# Altium footprint library arduino_uno.PcbLib: 1 footprints
Each footprint in its own frame and in the unit in brackets; x right, y up, seen from the top. Pads: shape width x height; smd on the part's side, far side on the other; paste and mask are expansions set on the pad; w line width, h text height; cw(c..) or ccw(c..) is an arc to the next point about the centre after c.
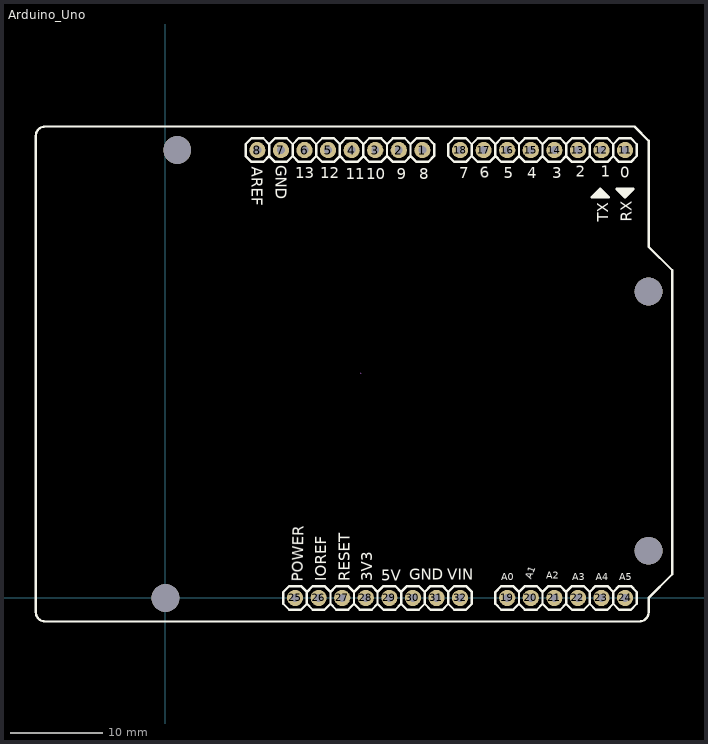
[diagram p0: the footprint, top view; thin cyan lines are the x and y axes]

## Arduino_Uno [mm]
pads (34):
  round 1.75 hole 0.85: 1(27.686,48.26) 2(25.146,48.26) 3(22.606,48.26) 4(20.066,48.26) 5(17.526,48.26) 6(14.986,48.26) 7(12.446,48.26) 8(9.906,48.26) 11(49.53,48.26) 12(46.99,48.26) 13(44.45,48.26) 14(41.91,48.26) 15(39.37,48.26) 16(36.83,48.26) 17(34.29,48.26) 18(31.75,48.26) 19(36.83,0) 20(39.37,0) 21(41.91,0) 22(44.45,0) 23(46.99,0) 24(49.53,0) 25(13.97,0) 26(16.51,0) 27(19.05,0) 28(21.59,0) 29(24.13,0) 30(26.67,0) 31(29.21,0) 32(31.75,0)
  round 3 hole 3 unplated: ""(0,0) ""(1.27,48.26) ""(52.07,5.08) ""(52.07,33.02)
Top Overlay:
  drawing of 243 lines, arcs and shapes, not listed
  text "GND" at 26.289,1.953 h1.17
  text "5V" at 23.241,1.829 h1.17
  text "VIN" at 30.353,1.953 h1.17
  text "POWER" at 14.778,1.768 h1.17
  text "IOREF" at 17.348,1.778 h1.17
  text "0" at 50.013,46.457 h1.17
  text "1" at 46.888,45.364 h1.17
  text "2" at 44.221,45.364 h1.17
  text "3" at 41.681,45.237 h1.17
  text "4" at 39.014,45.237 h1.17
  text "5" at 36.474,45.237 h1.17
  text "6" at 33.921,45.25 h1.17
  text "7" at 31.648,45.237 h1.17
  text "8" at 27.33,45.11 h1.17
  text "9" at 24.917,45.11 h1.17
  text "10" at 21.615,45.11 h1.17
  text "11" at 19.456,45.11 h1.17
  text "12" at 16.662,45.237 h1.17
  text "13" at 13.995,45.237 h1.17
  text "A5" at 48.895,1.905 h0.76
  text "A4" at 46.355,1.905 h0.76
  text "A3" at 43.815,1.905 h0.76
  text "A2" at 41.046,2.057 h0.76
  text "A1" at 39.409,1.975 h0.76
  text "3V3" at 22.304,1.788 h1.17
  text "RESET" at 19.888,1.778 h1.17
  text "RX" at 50.241,40.513 h1.17
  text "TX" at 47.701,40.513 h1.17
  text "GND" at 11.887,46.609 h1.17
  text "AREF" at 9.322,46.482 h1.17
  text "A0" at 36.195,1.905 h0.76
Mechanical 15:
  lines w0.003: 21.057,24.232 21.107,24.283